# Altium footprint library Components - 15.03.25 - 17.18.PcbLib: 1 footprints
Each footprint in its own frame and in the unit in brackets; x right, y up, seen from the top. Pads: shape width x height; smd on the part's side, far side on the other; paste and mask are expansions set on the pad; w line width, h text height; cw(c..) or ccw(c..) is an arc to the next point about the centre after c.
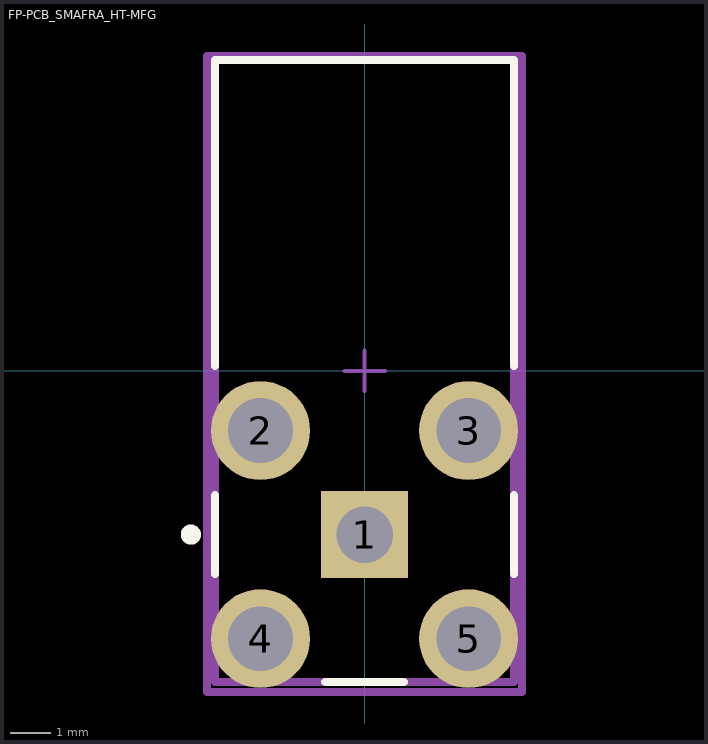
[diagram p0: the footprint, top view; thin cyan lines are the x and y axes]

## FP-PCB_SMAFRA_HT-MFG [mm]
pads (5):
  rect 2.15x2.15 hole 1.4 paste-2539.97 mask+0: 1(0,-4.05)
  round 2.45 hole 1.6 paste-2539.97 mask+0: 2(-2.575,-1.475) 3(2.575,-1.475) 4(-2.575,-6.625) 5(2.575,-6.625)
Top Overlay:
  circle w0.25: c-4.3,-4.05 r0.125
  lines w0.2: -3.7,-5.025 -3.7,-3.075 ; -3.7,0.125 -3.7,7.7 3.7,7.7 3.7,0.125 ; -0.975,-7.7 0.975,-7.7 ; 3.7,-5.025 3.7,-3.075
Top Assembly:
  lines w0.2: -3.9,-7.95 -3.9,7.8 3.9,7.8 3.9,-7.95 -3.9,-7.95
  text ".Designator" at 0,-0.076 h1
Top 3D Body:
  lines w0.2: -3.7,-7.7 -3.7,7.7 3.7,7.7 3.7,-7.7 -3.7,-7.7
Top Courtyard:
  lines w0.2: -3.9,-7.95 -3.9,7.8 3.9,7.8 3.9,-7.95 -3.9,-7.95
Top Component Center:
  lines w0.1: -0.5,0 0.5,0 ; 0,-0.5 0,0.5
3D body "Conn_Taoglas_PCB_SMAFRA_HT_eec.STEP": height 0.25, standoff 0, extent -3.9,-7.95 3.9,7.8